# EAGLE library part 750340681 (library Wurth Electronics Midcom Inc - EAGLE Lib V2-1)
Package Style: PQ2020 Mounting: THT Pins: 14 pins Bobbin: 070-5250 Best pinouts for production vary per application. Please contact Wurth Electronics Midcom, Inc. for assistance with your custom design. Website: Wurth Electronics Midcom <http://www.we-online.com/midcom> Contact us Wurth Electronics Midcom, Inc. 121 Airport Dr. Watertown, SD 57201 Phone: (605) 886-4385 Fax: (605) 886-4486 E-Mail: midcom@we-online.com
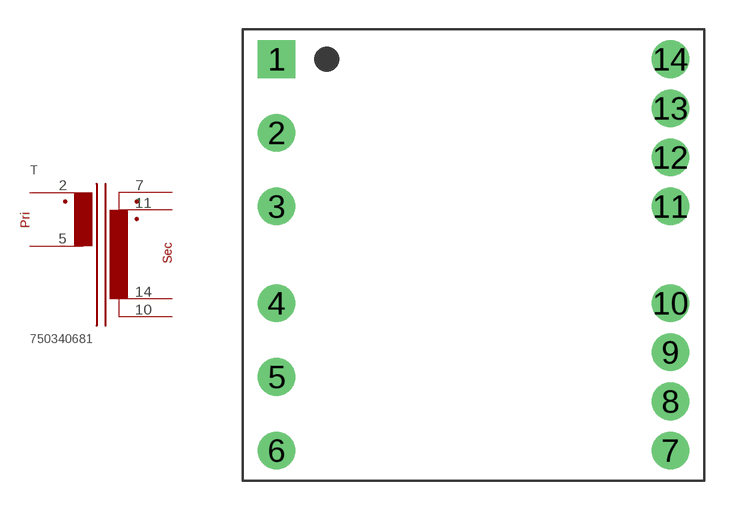
[diagram p307: symbol with the pads of PQ2020_THT_V_14PIN_(5250); footprint PQ2020_THT_V_14PIN_(5250)]

Designator prefix T

## 750340681  [PQ2020_THT_V_14PIN_(5250)]
2  2  pas
5  5  pas
7  7  pas
10  10  pas
11  11  pas
14  14  pas

## Footprint PQ2020_THT_V_14PIN_(5250) (pad centres in mm)
Package Style: PQ2020 Mounting: THT Pins: 14 Bobbin: 070-5250
drill 1.295 square: 1 -10.173,10.122
drill 1.295: 2 -10.173,6.312; 3 -10.173,2.502; 4 -10.173,-2.502; 5 -10.173,-6.312; 6 -10.173,-10.122; 7 10.173,-10.122; 8 10.173,-7.582; 9 10.173,-5.042; 10 10.173,-2.502; 11 10.173,2.502; 12 10.173,5.042; 13 10.173,7.582; 14 10.173,10.122